# Altium schematic symbol library AltiumDesigner.SchLib: 2 symbols
Pins are listed as number, name and electrical type; pins without a type are passive.

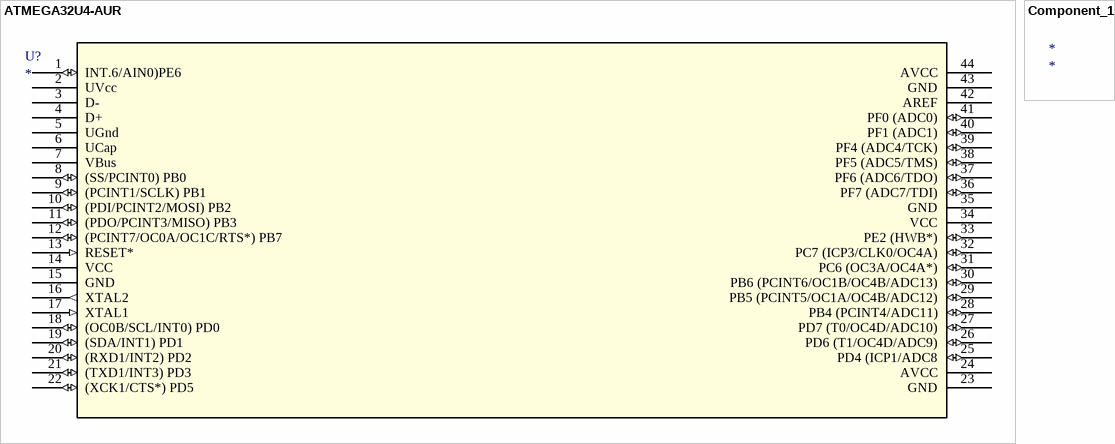
[diagram p0: symbols ATMEGA32U4-AUR to Component_1]

## ATMEGA32U4-AUR
designator U?
Imported; Manufacturer_Part_Number: ATMEGA32U4-AUR; Vendor: Atmel; Built_By: EMA_UL_Team; C: Copyright (C) 2015 Accelerated Designs. All rights reserved; RefDes: RefDes; Type: DEV; Value: Value
footprint 44ML
pins: 1 INT.6/AIN0)PE6 (io), 2 UVcc (power), 3 D-, 4 D+, 5 UGnd (power), 6 UCap (power), 7 VBus (power), 8 (SS/PCINT0) PB0 (io), 9 (PCINT1/SCLK) PB1 (io), 10 (PDI/PCINT2/MOSI) PB2 (io), 11 (PDO/PCINT3/MISO) PB3 (io), 12 (PCINT7/OC0A/OC1C/RTS*) PB7 (io), 13 RESET* (in), 14 VCC (power), 15 GND (power), 16 XTAL2 (out), 17 XTAL1 (in), 18 (OC0B/SCL/INT0) PD0 (io), 19 (SDA/INT1) PD1 (io), 20 (RXD1/INT2) PD2 (io), 21 (TXD1/INT3) PD3 (io), 22 (XCK1/CTS*) PD5 (io), 23 GND (power), 24 AVCC (power), 25 PD4 (ICP1/ADC8 (io), 26 PD6 (T1/OC4D/ADC9) (io), 27 PD7 (T0/OC4D/ADC10) (io), 28 PB4 (PCINT4/ADC11) (io), 29 PB5 (PCINT5/OC1A/OC4B/ADC12) (io), 30 PB6 (PCINT6/OC1B/OC4B/ADC13) (io), 31 PC6 (OC3A/OC4A*) (io), 32 PC7 (ICP3/CLK0/OC4A) (io), 33 PE2 (HWB*) (io), 34 VCC (power), 35 GND (power), 36 PF7 (ADC7/TDI) (io), 37 PF6 (ADC6/TDO) (io), 38 PF5 (ADC5/TMS) (io), 39 PF4 (ADC4/TCK) (io), 40 PF1 (ADC1) (io), 41 PF0 (ADC0) (io), 42 AREF, 43 GND (power), 44 AVCC (power)

## Component_1
designator *